# Altium schematic symbol library PJ6206A.SchLib: 1 symbol
Pins are listed as number, name and electrical type; pins without a type are passive.

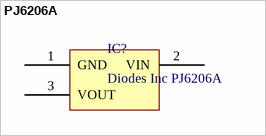
[diagram p0: symbol PJ6206A]

## PJ6206A
designator IC?, comment Diodes Inc PJ6206A
300mA Low quiescent current fast transient low drop out linear regulator
footprint ON SEMI SOT-89 H (SOT89, 3-Leads, Body 4.50x2.50mm, Pitch 1.50mm, Lead Span 3.3mm, IPC Medium Density)
pins: 1 GND, 2 VIN, 3 VOUT